# EAGLE library part CONN,8POS (library 9_Dynalec)
PIN HEADER
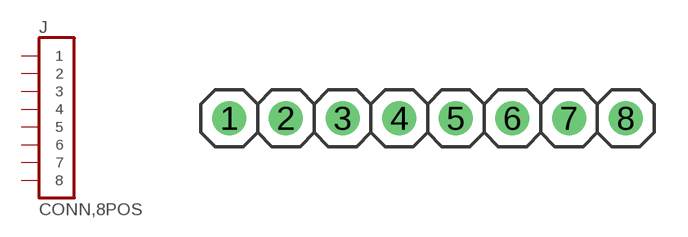
[diagram p1: symbol with the pads of HDR,PIN,SP0.1IN,1X8; footprint HDR,PIN,SP0.1IN,1X8]

Designator prefix J

## CONN,8POS  [HDR,PIN,SP0.1IN,1X8]
1  1  pas
2  2  pas
3  3  pas
4  4  pas
5  5  pas
6  6  pas
7  7  pas
8  8  pas

## Footprint HDR,PIN,SP0.1IN,1X8 (pad centres in mm)
PIN HEADER
drill 1.016: 1 0,0; 2 2.54,0; 3 5.08,0; 4 7.62,0; 5 10.16,0; 6 12.7,0; 7 15.24,0; 8 17.78,0